# Altium schematic symbol library WL-SIQW.SchLib: 12 symbols
Pins are listed as number, name and electrical type; pins without a type are passive.

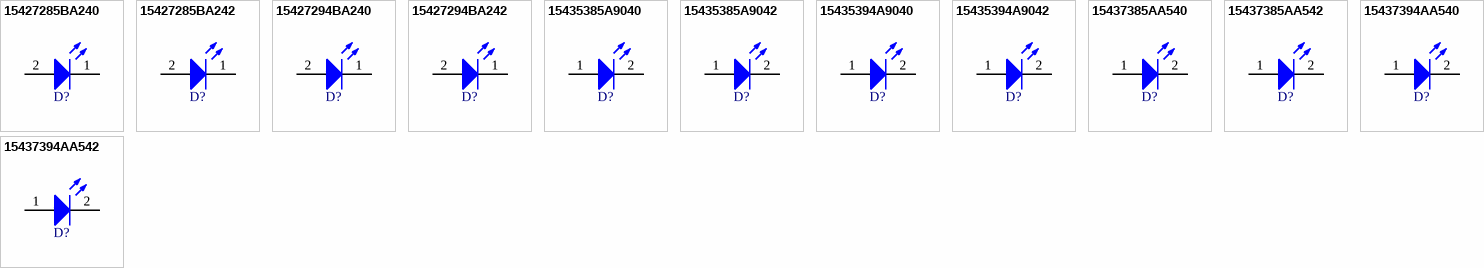
[diagram p0: symbols 15427285BA240 to 15437394AA542]

## 15427285BA240
designator D?, comment Infrared, 1.8V, 120°  (value not drawn)
WL-SIQW SMT Infrared QFN LED Waterclear, size 2720, Infrared, 1.8V, 120°; Manufacturer Part Number: 15427285BA240; Manufacturer: Wurth Elektronik; Case/Size Code: 2720; Centroid Wavelength: 845nm; Chip Technology: AlInGaAs; Peak Wavelength: 850nm; Radiant Flux: 450mW; Radiant Intensity: 160mW/sr; Category: Infrared LEDs; Match Code: WL-SIQW; ComponentLink1Description: Website Link; ComponentLink1URL: https://www.we-online.com/redexpert/article/15427285BA240?ad; ComponentLink2Description: Datasheet Link; ComponentLink2URL: https://www.we-online.com/redexpert/spec/15427285BA240?ad; Mount: Surface Mount; Operating Temperature Max: 85°C; Operating Temperature Min: -40°C; Packaging: Tape and Reel; Length: 2.75mm; Width: 2mm; Height: 0.6mm; Emitting Color: Infrared; Forward Voltage: 1.8V; Viewing Angle: 120°
footprint WL-SIQW_2720
simulation model 2720_15427285BA240
pins: 1 K, 2 A

## 15427285BA242
designator D?, comment Infrared, 3.2V, 120°  (value not drawn)
WL-SIQW SMT Infrared QFN LED Waterclear, size 2720, Infrared, 3.2V, 120°; Manufacturer Part Number: 15427285BA242; Manufacturer: Wurth Elektronik; Case/Size Code: 2720; Centroid Wavelength: 845nm; Chip Technology: AlInGaAs; Peak Wavelength: 850nm; Radiant Flux: 900mW; Radiant Intensity: 350mW/sr; Category: Infrared LEDs; Match Code: WL-SIQW; ComponentLink1Description: Website Link; ComponentLink1URL: https://www.we-online.com/redexpert/article/15427285BA242?ad; ComponentLink2Description: Datasheet Link; ComponentLink2URL: https://www.we-online.com/redexpert/spec/15427285BA242?ad; Mount: Surface Mount; Operating Temperature Max: 85°C; Operating Temperature Min: -40°C; Packaging: Tape and Reel; Length: 2.75mm; Width: 2mm; Height: 0.6mm; Emitting Color: Infrared; Forward Voltage: 3.2V; Viewing Angle: 120°
footprint WL-SIQW_2720
simulation model 2720_15427285BA242
pins: 1 K, 2 A

## 15427294BA240
designator D?, comment Infrared, 1.8V, 120°  (value not drawn)
WL-SIQW SMT Infrared QFN LED Waterclear, size 2720, Infrared, 1.8V, 120°; Manufacturer Part Number: 15427294BA240; Manufacturer: Wurth Elektronik; Case/Size Code: 2720; Centroid Wavelength: 935nm; Chip Technology: AlInGaAs; Peak Wavelength: 940nm; Radiant Flux: 450mW; Radiant Intensity: 125mW/sr; Category: Infrared LEDs; Match Code: WL-SIQW; ComponentLink1Description: Website Link; ComponentLink1URL: https://www.we-online.com/redexpert/article/15427294BA240?ad; ComponentLink2Description: Datasheet Link; ComponentLink2URL: https://www.we-online.com/redexpert/spec/15427294BA240?ad; Mount: Surface Mount; Operating Temperature Max: 85°C; Operating Temperature Min: -40°C; Packaging: Tape and Reel; Length: 2.75mm; Width: 2mm; Height: 0.6mm; Emitting Color: Infrared; Forward Voltage: 1.8V; Viewing Angle: 120°
footprint WL-SIQW_2720
simulation model 2720_15427294BA240
pins: 1 K, 2 A

## 15427294BA242
designator D?, comment Infrared, 3V, 120°  (value not drawn)
WL-SIQW SMT Infrared QFN LED Waterclear, size 2720, Infrared, 3V, 120°; Manufacturer Part Number: 15427294BA242; Manufacturer: Wurth Elektronik; Case/Size Code: 2720; Centroid Wavelength: 935nm; Chip Technology: AlInGaAs; Peak Wavelength: 940nm; Radiant Flux: 1000mW; Radiant Intensity: 360mW/sr; Category: Infrared LEDs; Match Code: WL-SIQW; ComponentLink1Description: Website Link; ComponentLink1URL: https://www.we-online.com/redexpert/article/15427294BA242?ad; ComponentLink2Description: Datasheet Link; ComponentLink2URL: https://www.we-online.com/redexpert/spec/15427294BA242?ad; Mount: Surface Mount; Operating Temperature Max: 85°C; Operating Temperature Min: -40°C; Packaging: Tape and Reel; Length: 2.75mm; Width: 2mm; Height: 0.6mm; Emitting Color: Infrared; Forward Voltage: 3V; Viewing Angle: 120°
footprint WL-SIQW_2720
simulation model 2720_15427294BA242
pins: 1 K, 2 A

## 15435385A9040
designator D?, comment Infrared, 1.8V, 90°  (value not drawn)
WL-SIQW SMT Infrared QFN LED Waterclear, size 3535, Infrared, 1.8V, 90°; Manufacturer Part Number: 15435385A9040; Manufacturer: Wurth Elektronik; Case/Size Code: 3535; Centroid Wavelength: 845nm; Chip Technology: InAlGaAs; Peak Wavelength: 850nm; Radiant Flux: 800mW; Radiant Intensity: 400mW/sr; Category: Infrared LEDs; Match Code: WL-SIQW; ComponentLink1Description: Website Link; ComponentLink1URL: https://www.we-online.com/redexpert/article/15435385A9040?ad; ComponentLink2Description: Datasheet Link; ComponentLink2URL: https://www.we-online.com/redexpert/spec/15435385A9040?ad; Mount: Surface Mount; Operating Temperature Max: 85°C; Operating Temperature Min: -40°C; Packaging: Tape and Reel; Length: 3.55mm; Width: 3.55mm; Height: 2.63mm; Emitting Color: Infrared; Forward Voltage: 1.8V; Viewing Angle: 90°
footprint WL-SIQW_3535
simulation model 3535_15435385A9040
pins: 1 A, 2 K

## 15435385A9042
designator D?, comment Infrared, 3.2V, 90°  (value not drawn)
WL-SIQW SMT Infrared QFN LED Waterclear, size 3535, Infrared, 3.2V, 90°; Manufacturer Part Number: 15435385A9042; Manufacturer: Wurth Elektronik; Case/Size Code: 3535; Centroid Wavelength: 845nm; Chip Technology: InAlGaAs; Peak Wavelength: 850nm; Radiant Flux: 1400mW; Radiant Intensity: 800mW/sr; Category: Infrared LEDs; Match Code: WL-SIQW; ComponentLink1Description: Website Link; ComponentLink1URL: https://www.we-online.com/redexpert/article/15435385A9042?ad; ComponentLink2Description: Datasheet Link; ComponentLink2URL: https://www.we-online.com/redexpert/spec/15435385A9042?ad; Mount: Surface Mount; Operating Temperature Max: 85°C; Operating Temperature Min: -40°C; Packaging: Tape and Reel; Length: 3.55mm; Width: 3.55mm; Height: 2.63mm; Emitting Color: Infrared; Forward Voltage: 3.2V; Viewing Angle: 90°
footprint WL-SIQW_3535
simulation model 3535_15435385A9042
pins: 1 A, 2 K

## 15435394A9040
designator D?, comment Infrared, 1.7V, 90°  (value not drawn)
WL-SIQW SMT Infrared QFN LED Waterclear, size 3535, Infrared, 1.7V, 90°; Manufacturer Part Number: 15435394A9040; Manufacturer: Wurth Elektronik; Case/Size Code: 3535; Centroid Wavelength: 945nm; Chip Technology: InAlGaAs; Peak Wavelength: 940nm; Radiant Flux: 700mW; Radiant Intensity: 350mW/sr; Category: Infrared LEDs; Match Code: WL-SIQW; ComponentLink1Description: Website Link; ComponentLink1URL: https://www.we-online.com/redexpert/article/15435394A9040?ad; ComponentLink2Description: Datasheet Link; ComponentLink2URL: https://www.we-online.com/redexpert/spec/15435394A9040?ad; Mount: Surface Mount; Operating Temperature Max: 85°C; Operating Temperature Min: -40°C; Packaging: Tape and Reel; Length: 3.55mm; Width: 3.55mm; Height: 2.63mm; Emitting Color: Infrared; Forward Voltage: 1.7V; Viewing Angle: 90°
footprint WL-SIQW_3535
simulation model 3535_15435394A9040
pins: 1 A, 2 K

## 15435394A9042
designator D?, comment Infrared, 3.2V, 90°  (value not drawn)
WL-SIQW SMT Infrared QFN LED Waterclear, size 3535, Infrared, 3.2V, 90°; Manufacturer Part Number: 15435394A9042; Manufacturer: Wurth Elektronik; Case/Size Code: 3535; Centroid Wavelength: 945nm; Chip Technology: InAlGaAs; Peak Wavelength: 940nm; Radiant Flux: 1300mW; Radiant Intensity: 700mW/sr; Category: Infrared LEDs; Match Code: WL-SIQW; ComponentLink1Description: Website Link; ComponentLink1URL: https://www.we-online.com/redexpert/article/15435394A9042?ad; ComponentLink2Description: Datasheet Link; ComponentLink2URL: https://www.we-online.com/redexpert/spec/15435394A9042?ad; Mount: Surface Mount; Operating Temperature Max: 85°C; Operating Temperature Min: -40°C; Packaging: Tape and Reel; Length: 3.55mm; Width: 3.55mm; Height: 2.63mm; Emitting Color: Infrared; Forward Voltage: 3.2V; Viewing Angle: 90°
footprint WL-SIQW_3535
simulation model 3535_15435394A9042
pins: 1 A, 2 K

## 15437385AA540
designator D?, comment Infrared, 1.8V, 150°  (value not drawn)
WL-SIQW SMT Infrared QFN LED Waterclear, size 3737, Infrared, 1.8V, 150°; Manufacturer Part Number: 15437385AA540; Manufacturer: Wurth Elektronik; Case/Size Code: 3737; Centroid Wavelength: 855nm; Chip Technology: InAlGaAs; Peak Wavelength: 850nm; Radiant Flux: 700mW; Radiant Intensity: 180mW/sr; Category: Infrared LEDs; Match Code: WL-SIQW; ComponentLink1Description: Website Link; ComponentLink1URL: https://www.we-online.com/redexpert/article/15437385AA540?ad; ComponentLink2Description: Datasheet Link; ComponentLink2URL: https://www.we-online.com/redexpert/spec/15437385AA540?ad; Mount: Surface Mount; Operating Temperature Max: 85°C; Operating Temperature Min: -40°C; Packaging: Tape and Reel; Length: 3.7mm; Width: 3.7mm; Height: 1.49mm; Emitting Color: Infrared; Forward Voltage: 1.8V; Viewing Angle: 150°
footprint WL-SIQW_3737
simulation model 3737_15437385AA540
pins: 1 A, 2 K

## 15437385AA542
designator D?, comment Infrared, 3.2V, 150°  (value not drawn)
WL-SIQW SMT Infrared QFN LED Waterclear, size 3737, Infrared, 3.2V, 150°; Manufacturer Part Number: 15437385AA542; Manufacturer: Wurth Elektronik; Case/Size Code: 3737; Centroid Wavelength: 855nm; Chip Technology: InAlGaAs; Peak Wavelength: 850nm; Radiant Flux: 1100mW; Radiant Intensity: 260mW/sr; Category: Infrared LEDs; Match Code: WL-SIQW; ComponentLink1Description: Website Link; ComponentLink1URL: https://www.we-online.com/redexpert/article/15437385AA542?ad; ComponentLink2Description: Datasheet Link; ComponentLink2URL: https://www.we-online.com/redexpert/spec/15437385AA542?ad; Mount: Surface Mount; Operating Temperature Max: 85°C; Operating Temperature Min: -40°C; Packaging: Tape and Reel; Length: 3.7mm; Width: 3.7mm; Height: 1.49mm; Emitting Color: Infrared; Forward Voltage: 3.2V; Viewing Angle: 150°
footprint WL-SIQW_3737
simulation model 3737_15437385AA542
pins: 1 A, 2 K

## 15437394AA540
designator D?, comment Infrared, 1.7V, 150°  (value not drawn)
WL-SIQW SMT Infrared QFN LED Waterclear, size 3737, Infrared, 1.7V, 150°; Manufacturer Part Number: 15437394AA540; Manufacturer: Wurth Elektronik; Case/Size Code: 3737; Centroid Wavelength: 945nm; Chip Technology: InAlGaAs; Peak Wavelength: 940nm; Radiant Flux: 600mW; Radiant Intensity: 150mW/sr; Category: Infrared LEDs; Match Code: WL-SIQW; ComponentLink1Description: Website Link; ComponentLink1URL: https://www.we-online.com/redexpert/article/15437394AA540?ad; ComponentLink2Description: Datasheet Link; ComponentLink2URL: https://www.we-online.com/redexpert/spec/15437394AA540?ad; Mount: Surface Mount; Operating Temperature Max: 85°C; Operating Temperature Min: -40°C; Packaging: Tape and Reel; Length: 3.7mm; Width: 3.7mm; Height: 1.49mm; Emitting Color: Infrared; Forward Voltage: 1.7V; Viewing Angle: 150°
footprint WL-SIQW_3737
simulation model 3737_15437394AA540
pins: 1 A, 2 K

## 15437394AA542
designator D?, comment Infrared, 3.2V, 150°  (value not drawn)
WL-SIQW SMT Infrared QFN LED Waterclear, size 3737, Infrared, 3.2V, 150°; Manufacturer Part Number: 15437394AA542; Manufacturer: Wurth Elektronik; Case/Size Code: 3737; Centroid Wavelength: 945nm; Chip Technology: InAlGaAs; Peak Wavelength: 940nm; Radiant Flux: 1200mW; Radiant Intensity: 300mW/sr; Category: Infrared LEDs; Match Code: WL-SIQW; ComponentLink1Description: Website Link; ComponentLink1URL: https://www.we-online.com/redexpert/article/15437394AA542?ad; ComponentLink2Description: Datasheet Link; ComponentLink2URL: https://www.we-online.com/redexpert/spec/15437394AA542?ad; Mount: Surface Mount; Operating Temperature Max: 85°C; Operating Temperature Min: -40°C; Packaging: Tape and Reel; Length: 3.7mm; Width: 3.7mm; Height: 1.49mm; Emitting Color: Infrared; Forward Voltage: 3.2V; Viewing Angle: 150°
footprint WL-SIQW_3737
simulation model 3737_15437394AA542
pins: 1 A, 2 K